# Altium footprint library CX3225GB.PcbLib: 1 footprints
Each footprint in its own frame and in the unit in brackets; x right, y up, seen from the top. Pads: shape width x height; smd on the part's side, far side on the other; paste and mask are expansions set on the pad; w line width, h text height; cw(c..) or ccw(c..) is an arc to the next point about the centre after c.
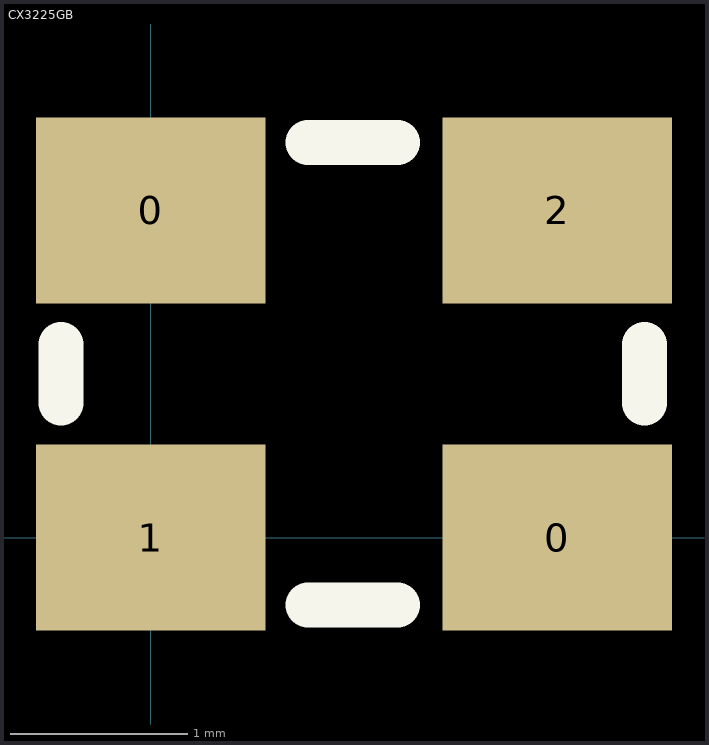
[diagram p0: the footprint, top view; thin cyan lines are the x and y axes]

## CX3225GB [mm] "Surface mount crystal oscillator"
pads (4):
  rect 1.3x1.05 smd paste+0 mask+0.075: 0(0,1.85) 0(2.3,0) 1(0,0) 2(2.3,1.85)
Top Overlay:
  lines w0.254: -0.508,0.762 -0.508,1.092 ; 0.889,-0.381 1.397,-0.381 ; 0.889,2.235 1.397,2.235 ; 2.794,0.762 2.794,1.092
3D body: height 0.8, standoff 0, extent -0.635,-0.508 2.921,2.362